# EAGLE library part 25AA020A-I/MS (library Microchip_By_element14_Batch_1)
2K SPI Bus Serial EEPROM
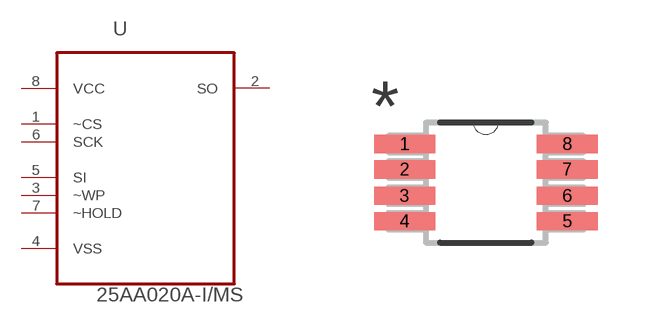
[diagram p105: symbol with the pads of SOP65P490X110-8N; footprint SOP65P490X110-8N]

Designator prefix -

## 25AA020A-I/MS (MPN: 25AA020A-I/MS; OC_FARNELL: 1331341; OC_NEWARK: 35M0797; PACKAGE: MSOP-8; SUPPLIER: MICROCHIP)  [SOP65P490X110-8N]
1  ~CS  in
2  SO  out
3  ~WP  in
4  VSS  pas
5  SI  in
6  SCK  in
7  ~HOLD  in
8  VCC  pwr

## Footprint SOP65P490X110-8N (pad centres in mm)
smd 1.524 x 0.457: 1 -2.032,0.965; 2 -2.032,0.33; 3 -2.032,-0.33; 4 -2.032,-0.965; 5 2.032,-0.965; 6 2.032,-0.33; 7 2.032,0.33; 8 2.032,0.965